# EAGLE library part PIC16F1614 (library mb3_integrated circuits)
Microcontroller 8-BIT, 32MHz, 7kB Through-Hole http://www.mouser.com/ProductDetail/Microchip-Technology/PIC16F1614-I-P/?qs=sGAEpiMZZMvqv2n3s2xjsX%2fC8ntlmIvSVHUqtJuPqf5%2fStVRwnj%2fhw%3d%3d Surface Mount http://www.mouser.com/ProductDetail/Microchip-Technology/PIC16F1614-E-SL/?qs=sGAEpiMZZMvqv2n3s2xjsX%2fC8ntlmIvS0w8cBY1RTMwE945Mrg%252b7Rg%3d%3d
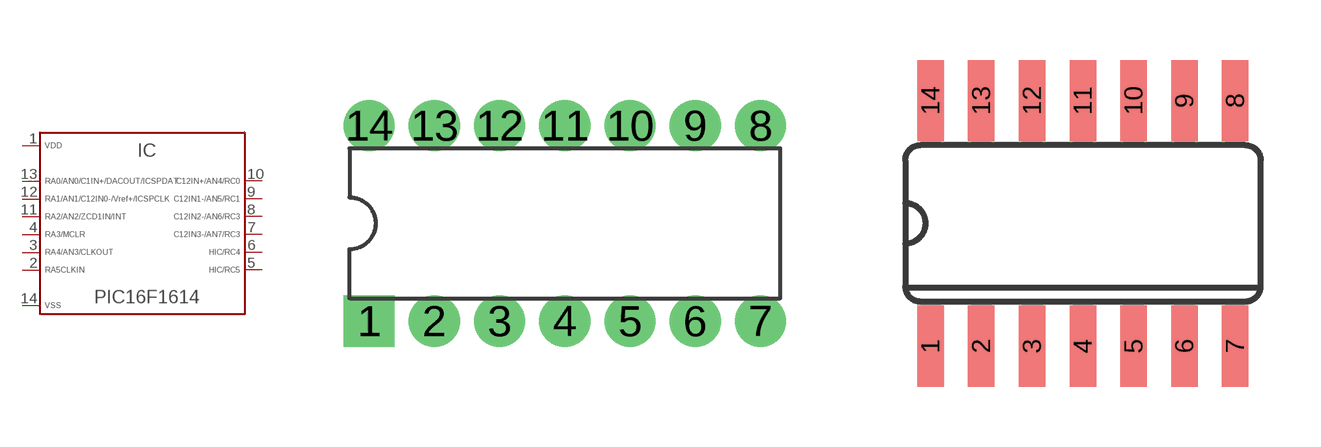
[diagram p29: symbol with the pads of DIP14.1; footprints DIP14.1, SO14]

Designator prefix IC

## PIC16F1614_TH  [DIP14.1]
1  1
2  2
3  3
4  4
5  5
6  6
7  7
8  8
9  9
10  10
11  11
12  12
13  13
14  14

## PIC16F1614_SMD  [SO14]
Pads as for DIP14.1

## Footprint DIP14.1 (pad centres in mm)
Dual In Line Package
drill 1 pad 2 square: 1 -7.62,-3.81
drill 1 pad 2: 2 -5.08,-3.81; 3 -2.54,-3.81; 4 0,-3.81; 5 2.54,-3.81; 6 5.08,-3.81; 7 7.62,-3.81; 8 7.62,3.81; 9 5.08,3.81; 10 2.54,3.81; 11 0,3.81; 12 -2.54,3.81; 13 -5.08,3.81; 14 -7.62,3.81

## Footprint SO14 (pad centres in mm)
Small Outline package 150 mil
smd 0.66 x 2.032: 1 -3.81,-3.073; 2 -2.54,-3.073; 3 -1.27,-3.073; 4 0,-3.073; 5 1.27,-3.073; 6 2.54,-3.073; 7 3.81,-3.073; 8 3.81,3.073; 9 2.54,3.073; 10 1.27,3.073; 11 0,3.073; 12 -1.27,3.073; 13 -2.54,3.073; 14 -3.81,3.073